# EAGLE library part SIM340DZ (library sim-technology)
SIM340DZ_HD_V1.02 Source: SIM340DZ_HD_V102 ANATEL.pdf
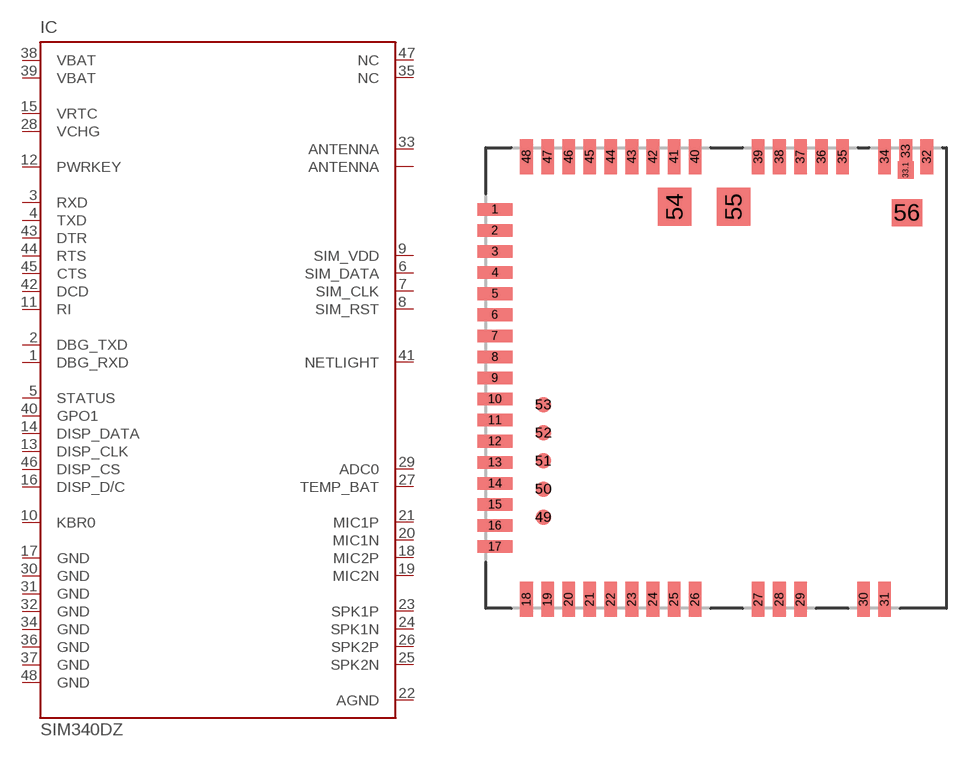
[diagram p0: symbol with the pads of SIM340DZ; footprint SIM340DZ]

Designator prefix IC

## SIM340DZ  [SIM340DZ]
1  DBG_RXD  in
2  DBG_TXD  out
3  RXD  in
4  TXD  out
5  STATUS  out
6  SIM_DATA
7  SIM_CLK  out
8  SIM_RST  out
9  SIM_VDD  out
10  KBR0  in
11  RI  out
12  PWRKEY  in
13  DISP_CLK  in
14  DISP_DATA
15  VRTC  in
16  DISP_D/C  out
17  GND  pwr
18  MIC2P  in
19  MIC2N  in
20  MIC1N  in
21  MIC1P  in
22  AGND  pwr
23  SPK1P  out
24  SPK1N  out
25  SPK2N  out
26  SPK2P  out
27  TEMP_BAT  in
28  VCHG  in
29  ADC0  in
30  GND  pwr
31  GND  pwr
32  GND  pwr
33  ANTENNA  in
33.1  ANTENNA  in
34  GND  pwr
35  NC  nc
36  GND  pwr
37  GND  pwr
38  VBAT  in
39  VBAT  in
40  GPO1  out
41  NETLIGHT  in
42  DCD  in
43  DTR  in
44  RTS  in
45  CTS  out
46  DISP_CS  out
47  NC  in
48  GND  in

## Footprint SIM340DZ (pad centres in mm)
SIM340DZ Source: SIM340DZ_HD_V102 ANATEL.pdf
smd 2.5 x 0.9: 1 -15.75,12; 2 -15.75,10.5; 3 -15.75,9; 4 -15.75,7.5; 5 -15.75,6; 6 -15.75,4.5; 7 -15.75,3; 8 -15.75,1.5; 9 -15.75,0; 10 -15.75,-1.5; 11 -15.75,-3; 12 -15.75,-4.5; 13 -15.75,-6; 14 -15.75,-7.5; 15 -15.75,-9; 16 -15.75,-10.5; 17 -15.75,-12
smd 0.9 x 2.5: 18 -13.5,-15.75; 19 -12,-15.75; 20 -10.5,-15.75; 21 -9,-15.75; 22 -7.5,-15.75; 23 -6,-15.75; 24 -4.5,-15.75; 25 -3,-15.75; 26 -1.5,-15.75; 27 3,-15.75; 28 4.5,-15.75; 29 6,-15.75; 30 10.5,-15.75; 31 12,-15.75; 32 15,15.75; 34 12,15.75; 35 9,15.75; 36 7.5,15.75; 37 6,15.75; 38 4.5,15.75; 39 3,15.75; 40 -1.5,15.75; 41 -3,15.75; 42 -4.5,15.75; 43 -6,15.75; 44 -7.5,15.75; 45 -9,15.75; 46 -10.5,15.75; 47 -12,15.75; 48 -13.5,15.75
smd 0.9 x 1.7: 33 13.5,16.15
smd 1.15 x 1.25: 33.1 13.5,14.805
smd 1.12 x 1.12: 49 -12.3,-9.9; 50 -12.3,-7.9; 51 -12.3,-5.9; 52 -12.3,-3.9; 53 -12.3,-1.9
smd 2.4 x 2.7: 54 -2.95,12.2; 55 1.25,12.2
smd 2.18 x 1.91: 56 13.595,11.76